# EAGLE library part PN531 (library micro-philips)
Near Field Communication Transmission module Source: http://www.semiconductors.philips.com/acrobat_download/other/identification/sfs_pn531_rev2.0.pdf
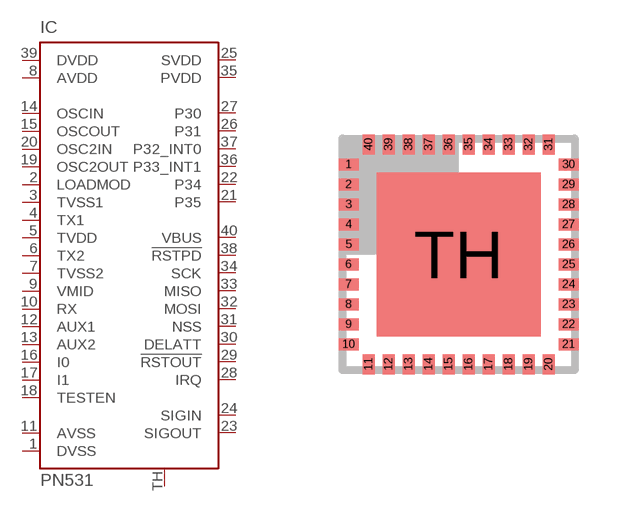
[diagram p19: symbol with the pads of HVQFN40; footprint HVQFN40]

Designator prefix IC

## PN531 (MPN: PN5310A3HN/C203,51; OC_FARNELL: unknown; OC_NEWARK: 70R7886)  [HVQFN40]
1  DVSS  pwr
2  LOADMOD  out
3  TVSS1  pwr
4  TX1  out
5  TVDD  pwr
6  TX2  out
7  TVSS2  pwr
8  AVDD  pwr
9  VMID  pwr
10  RX  in
11  AVSS  pwr
12  AUX1  out
13  AUX2  out
14  OSCIN  in
15  OSCOUT  out
16  I0  in
17  I1  in
18  TESTEN  in
19  OSC2OUT  out
20  OSC2IN  in
21  P35
22  P34
23  SIGOUT  out
24  SIGIN  in
25  SVDD  pwr
26  P31
27  P30
28  IRQ  out
29  !RSTOUT
30  DELATT  out
31  NSS
32  MOSI
33  MISO
34  SCK
35  PVDD  pwr
36  P33_INT1
37  P32_INT0
38  !RSTPD  in
39  DVDD  in
40  VBUS  in
TH  TH  pas

## Footprint HVQFN40 (pad centres in mm)
HVQFN40 plastic thermal enhanced very thin quad flat package SOT618-1 no leads; 40 terminals; body 6 x 6 x 0.85 mm Source: http://www.semiconductors.philips.com/acrobat_download/packages/SOT618-1.pdf
smd 0.5 x 0.3: 1 -2.75,2.25; 2 -2.75,1.75; 3 -2.75,1.25; 4 -2.75,0.75; 5 -2.75,0.25; 6 -2.75,-0.25; 7 -2.75,-0.75; 8 -2.75,-1.25; 9 -2.75,-1.75; 10 -2.75,-2.25; 21 2.75,-2.25; 22 2.75,-1.75; 23 2.75,-1.25; 24 2.75,-0.75; 25 2.75,-0.25; 26 2.75,0.25; 27 2.75,0.75; 28 2.75,1.25; 29 2.75,1.75; 30 2.75,2.25
smd 0.3 x 0.5: 11 -2.25,-2.75; 12 -1.75,-2.75; 13 -1.25,-2.75; 14 -0.75,-2.75; 15 -0.25,-2.75; 16 0.25,-2.75; 17 0.75,-2.75; 18 1.25,-2.75; 19 1.75,-2.75; 20 2.25,-2.75; 31 2.25,2.75; 32 1.75,2.75; 33 1.25,2.75; 34 0.75,2.75; 35 0.25,2.75; 36 -0.25,2.75; 37 -0.75,2.75; 38 -1.25,2.75; 39 -1.75,2.75; 40 -2.25,2.75
smd 4.1 x 4.1: TH 0,0